# Altium integrated library 47uF50VCeraCapa.IntLib: 1 symbol
Pins are listed as number, name and electrical type; pins without a type are passive.

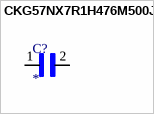
[diagram p0: symbol CKG57NX7R1H476M500JJ]

## CKG57NX7R1H476M500JJ
designator C?
MF: TDK; MP: CKG57NX7R1H476M500JJ; Value: *; Package: 6050 TDK; Purchase-URL: https://pricing.snapeda.com/search/part/CKG57NX7R1H476M500JJ/?ref=eda; Check_prices: https://www.snapeda.com/parts/CKG57NX7R1H476M500JJ/TDK/view-part/?ref=eda; Price: None; Availability: In Stock; SnapEDA_Link: https://www.snapeda.com/parts/CKG57NX7R1H476M500JJ/TDK/view-part/?ref=snap
footprint CAPC6050X550N
pins: 1, 2